# Altium integrated library PH2-20-UA.IntLib: 1 symbol
Pins are listed as number, name and electrical type; pins without a type are passive.

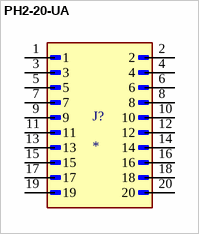
[diagram p0: symbol PH2-20-UA]

## PH2-20-UA
designator J?
MF: {'manufacturer': u'Adam Tech'}; MP: PH2-20-UA; Package: None; Price: None; Value: *; Availability: Unavailable
footprint ADAM_PH2-20-UA
pins: 1, 2, 3, 4, 5, 6, 7, 8, 9, 10, 11, 12, 13, 14, 15, 16, 17, 18, 19, 20